# Altium schematic symbol library Res_Vishay_CRCW08050000Z0EA_eec.SchLib: 1 symbol
Pins are listed as number, name and electrical type; pins without a type are passive.

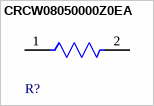
[diagram p0: symbol CRCW08050000Z0EA]

## CRCW08050000Z0EA
designator R?  (value not drawn)
pins: 1, 2